# Altium footprint library U4.PcbLib: 1 footprints
Each footprint in its own frame and in the unit in brackets; x right, y up, seen from the top. Pads: shape width x height; smd on the part's side, far side on the other; paste and mask are expansions set on the pad; w line width, h text height; cw(c..) or ccw(c..) is an arc to the next point about the centre after c.
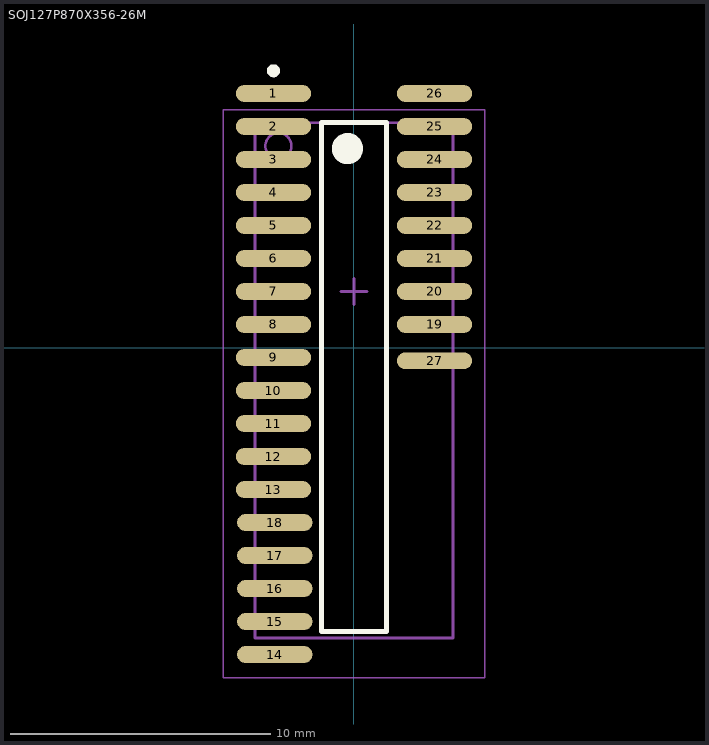
[diagram p0: the footprint, top view; thin cyan lines are the x and y axes]

## SOJ127P870X356-26M [mm] "SOJ, 26-Leads, Body 13.00x8.66mm, Pitch 1.27mm, IPC Low Density"
height 3.56
pads (27):
  oval 2.9x0.65 smd: 1(-3.1,9.779) 2(-3.1,8.509) 3(-3.1,7.239) 4(-3.1,5.969) 5(-3.1,4.699) 6(-3.1,3.429) 7(-3.1,2.159) 8(-3.1,0.889) 9(-3.1,-0.381) 10(-3.1,-1.651) 11(-3.1,-2.921) 12(-3.1,-4.191) 13(-3.1,-5.461) 14(-3.048,-11.811) 15(-3.048,-10.541) 16(-3.048,-9.271) 17(-3.048,-8.001) 18(-3.048,-6.731) 19(3.1,0.889) 20(3.1,2.159) 21(3.1,3.429) 22(3.1,4.699) 23(3.1,5.969) 24(3.1,7.239) 25(3.1,8.509) 26(3.1,9.779) 27(3.1,-0.508)
Top Overlay:
  circle w0.6: c-0.25,7.659 r0.3
  circle w0.25: c-3.1,10.654 r0.125
  lines w0.2: -1.25,-10.922 1.25,-10.922 1.25,8.659 -1.25,8.659 -1.25,-10.922
Assembly Top:
  circle w0.1: c-2.91,7.759 r0.5
  lines w0.1: -3.81,-11.176 3.81,-11.176 3.81,8.659 -3.81,8.659 -3.81,-11.176
Courtyard Top:
  lines w0.05: -5.025,-12.7 5.025,-12.7 5.025,9.159 -5.025,9.159 -5.025,-12.7
  lines w0.1: -0.5,2.159 0.5,2.159 ; 0,1.659 0,2.659
3D body: height 1.27, standoff 0, extent -2.54,-3.807 2.54,1.267